# Altium footprint library A_Passive.PcbLib: 83 footprints (part 4 of 6)
Each footprint in its own frame and in the unit in brackets; x right, y up, seen from the top. Pads: shape width x height; smd on the part's side, far side on the other; paste and mask are expansions set on the pad; w line width, h text height; cw(c..) or ccw(c..) is an arc to the next point about the centre after c.
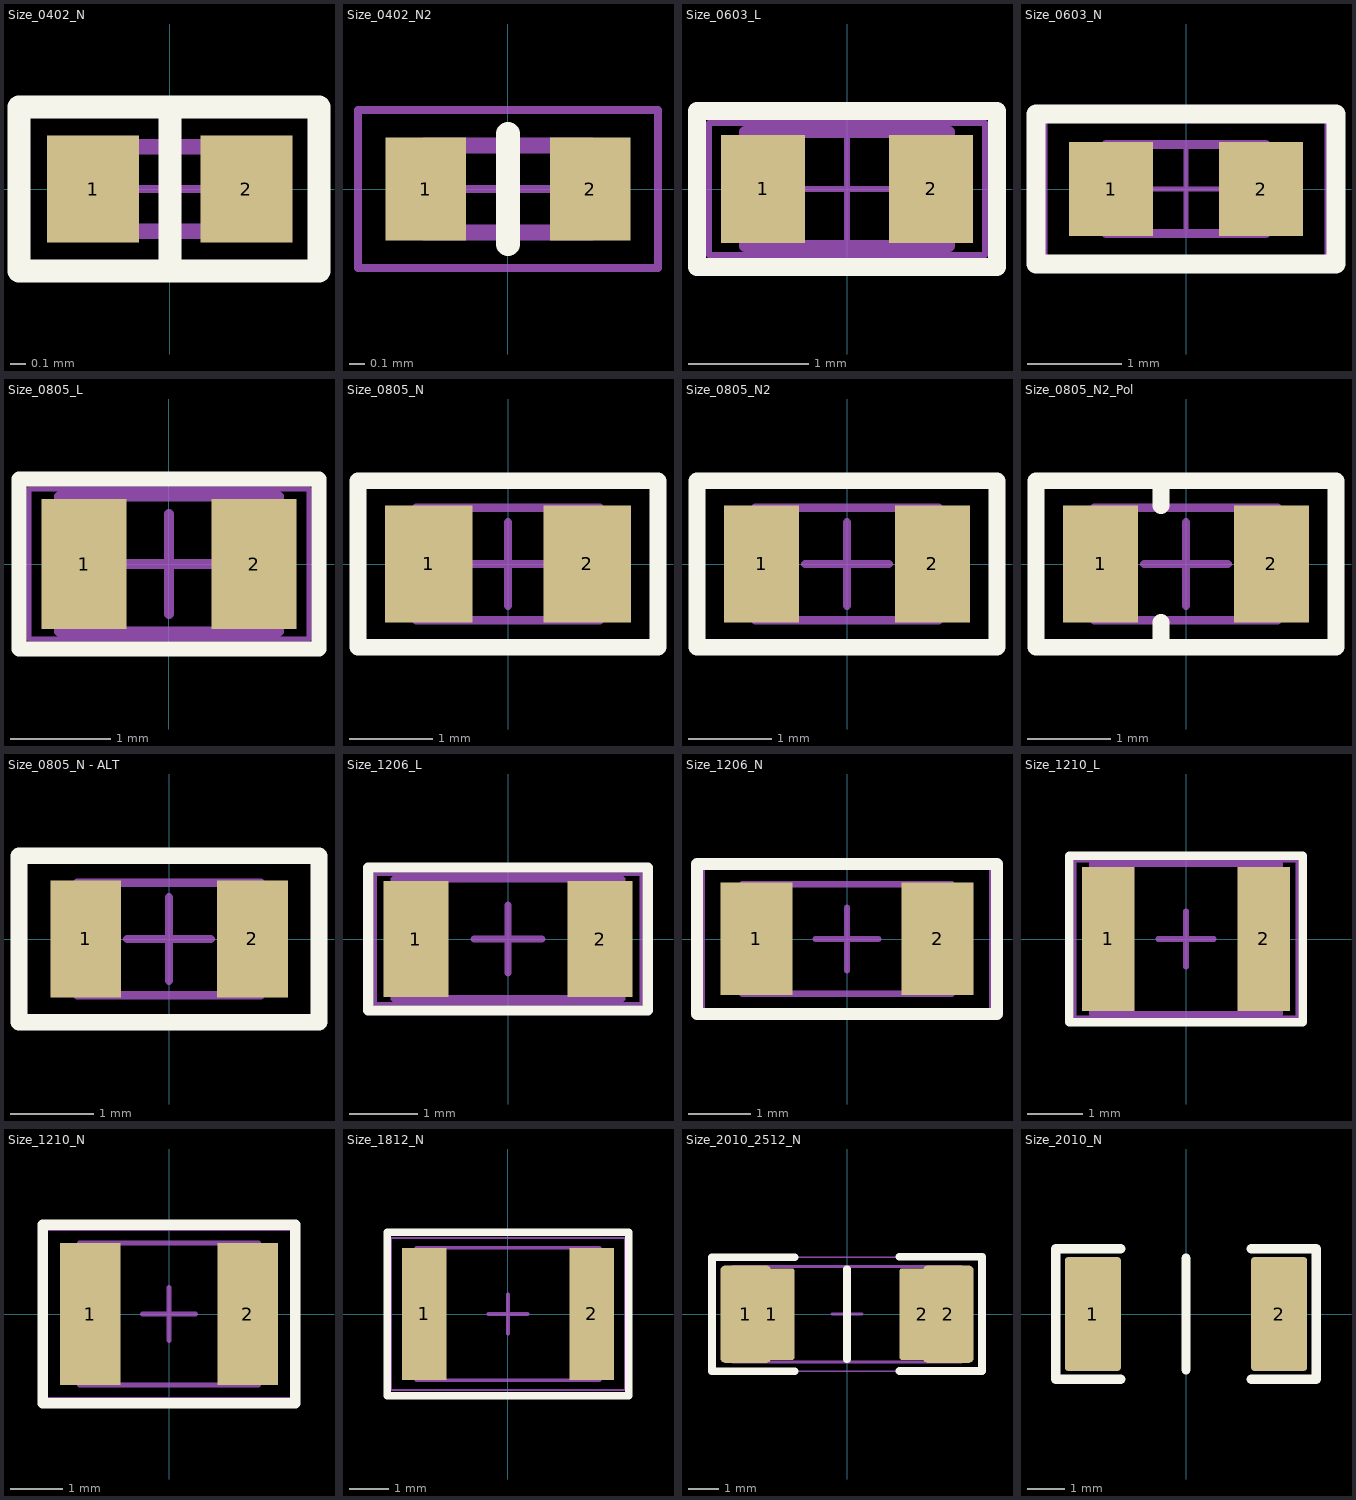
[diagram p3: the footprints below, top view; thin cyan lines are the x and y axes]

## Size_0402_N [mm] "Chip Resistor, Body 1.0x0.5mm, IPC Medium Density"
height 0.4
pads (2):
  rect 0.6x0.7 smd: 1(-0.5,0) 2(0.5,0)
Top Overlay:
  lines w0.15: 0.002,-0.533 0.002,0.533 ; -0.983,-0.533 0.313,-0.533 0.973,-0.533 0.973,0.533 0.313,0.533 -0.983,0.533 -0.983,-0.533
Mechanical 13:
  lines w0.1: -0.525,-0.275 0.525,-0.275 0.525,0.275 -0.525,0.275 -0.525,-0.275
Mechanical 15:
  lines w0.05: -0.275,0 0.275,0 ; 0,-0.275 0,0.275 ; -0.95,-0.5 0.95,-0.5 0.95,0.5 -0.95,0.5 -0.95,-0.5
3D body "User Library-CR1005-0402.step": height 0.35, standoff 0, extent -0.5,-0.25 0.5,0.25

## Size_0402_N2 [mm] "Chip Resistor, Body 1.0x0.5mm, IPC Medium Density"
height 0.4
pads (2):
  rect 0.51x0.65 smd: 1(-0.52,0) 2(0.52,0)
Top Overlay:
  lines w0.15: 0,-0.35 0,0.35
Mechanical 13:
  lines w0.1: -0.525,-0.275 0.525,-0.275 0.525,0.275 -0.525,0.275 -0.525,-0.275
Mechanical 15:
  lines w0.05: -0.275,0 0.275,0 ; 0,-0.275 0,0.275 ; -0.95,-0.5 0.95,-0.5 0.95,0.5 -0.95,0.5 -0.95,-0.5
3D body "User Library-CR1005-0402.step": height 0.35, standoff 0, extent -0.5,-0.25 0.5,0.25

## Size_0603_L [mm] "Chip Resistor, Body 1.6x0.8mm, IPC High Density"
height 0.6
pads (2):
  rect 0.7x0.9 smd: 1(-0.7,0) 2(0.7,0)
Top Overlay:
  lines w0.15: -1.25,-0.65 0.8,-0.65 1.25,-0.65 1.25,0.65 0.8,0.65 -1.25,0.65 -1.25,-0.65
Mechanical 13:
  lines w0.1: -0.85,-0.475 -0.85,0.475 0.85,0.475 0.85,-0.475 -0.85,-0.475
Mechanical 15:
  lines w0.05: -0.475,0 0.475,0 ; 0,-0.475 0,0.475 ; -1.15,-0.55 -1.15,0.55 1.15,0.55 1.15,-0.55 -1.15,-0.55
3D body "SMD RESISTOR-0603.step": height 0.46, standoff 0, extent -0.8,-0.4 0.8,0.4

## Size_0603_N [mm] "Chip Resistor, Body 1.6x0.8mm, IPC Medium Density"
height 0.6
pads (2):
  rect 0.9x1 smd: 1(-0.8,0) 2(0.8,0)
Top Overlay:
  lines w0.2: -1.6,-0.8 -1.6,0.8 1.1,0.8 1.6,0.8 1.6,-0.8 1.1,-0.8 -1.6,-0.8
Mechanical 13:
  lines w0.1: -0.85,-0.475 0.85,-0.475 0.85,0.475 -0.85,0.475 -0.85,-0.475
Mechanical 15:
  lines w0.05: -0.475,0 0.475,0 ; 0,-0.475 0,0.475 ; -1.5,-0.75 1.5,-0.75 1.5,0.75 -1.5,0.75 -1.5,-0.75
3D body "SMD RESISTOR-0603.step": height 0.46, standoff 0, extent -0.8,-0.4 0.8,0.4

## Size_0805_L [mm] "Chip Resistor, Body 2.0x1.3mm, IPC High Density"
height 0.7
pads (2):
  rect 0.85x1.3 smd: 1(-0.85,0) 2(0.85,0)
Top Overlay:
  lines w0.15: -1.5,-0.85 -1.5,0.85 1.1,0.85 1.5,0.85 1.5,-0.85 1.1,-0.85 -1.5,-0.85
Mechanical 13:
  lines w0.1: -1.1,-0.675 1.1,-0.675 1.1,0.675 -1.1,0.675 -1.1,-0.675
Mechanical 15:
  lines w0.05: -1.4,-0.75 1.4,-0.75 1.4,0.75 -1.4,0.75 -1.4,-0.75
  lines w0.1: -0.5,0 0.5,0 ; 0,-0.5 0,0.5
3D body "SMD RESISTOR-0805.step": height 0.62, standoff 0.02, extent -1,-0.625 1,0.625

## Size_0805_N [mm] "Chip Resistor, Body 2.0x1.3mm, IPC Medium Density"
height 0.7
pads (2):
  rect 1.05x1.4 smd: 1(-0.95,0) 2(0.95,0)
Top Overlay:
  lines w0.2: -1.8,-1 -1.8,1 1.1,1 1.8,1 1.8,-1 1.1,-1 -1.8,-1
Mechanical 13:
  lines w0.1: -1.1,-0.675 1.1,-0.675 1.1,0.675 -1.1,0.675 -1.1,-0.675
Mechanical 15:
  lines w0.05: -1.75,-0.95 1.75,-0.95 1.75,0.95 -1.75,0.95 -1.75,-0.95
  lines w0.1: -0.5,0 0.5,0 ; 0,-0.5 0,0.5
3D body "SMD RESISTOR-0805.step": height 0.62, standoff 0.02, extent -1,-0.625 1,0.625

## Size_0805_N2 [mm] "Narrower Pad Width, Chip Resistor, Body 2.0x1.3mm, IPC Medium Density"
height 0.7
pads (2):
  rect 0.9x1.4 smd: 1(-1.025,0) 2(1.025,0)
Top Overlay:
  lines w0.2: -1.8,-1 -1.8,1 1.1,1 1.8,1 1.8,-1 1.1,-1 -1.8,-1
Mechanical 13:
  lines w0.1: -1.1,-0.675 1.1,-0.675 1.1,0.675 -1.1,0.675 -1.1,-0.675
Mechanical 15:
  lines w0.05: -1.75,-0.95 1.75,-0.95 1.75,0.95 -1.75,0.95 -1.75,-0.95
  lines w0.1: -0.5,0 0.5,0 ; 0,-0.5 0,0.5
3D body "SMD RESISTOR-0805.step": height 0.62, standoff 0.02, extent -1,-0.625 1,0.625

## Size_0805_N2_Pol [mm] "Narrower Pad Width, Chip Resistor, Body 2.0x1.3mm, IPC Medium Density"
height 0.7
pads (2):
  rect 0.9x1.4 smd: 1(-1.025,0) 2(1.025,0)
Top Overlay:
  lines w0.2: -0.3,-1 -0.3,-0.7 ; -0.3,0.7 -0.3,1 ; -1.8,-1 1.1,-1 1.8,-1 1.8,1 1.1,1 -1.8,1 -1.8,-1
Mechanical 13:
  lines w0.1: -1.1,-0.675 -1.1,0.675 1.1,0.675 1.1,-0.675 -1.1,-0.675
Mechanical 15:
  lines w0.05: -1.75,-0.95 -1.75,0.95 1.75,0.95 1.75,-0.95 -1.75,-0.95
  lines w0.1: -0.5,0 0.5,0 ; 0,-0.5 0,0.5
3D body "SMD RESISTOR-0805.step": height 0.62, standoff 0.02, extent -1,-0.625 1,0.625

## Size_0805_N - ALT [mm] "Narrower Pad Width, Chip Resistor, Body 2.0x1.3mm, IPC Medium Density"
height 0.7
pads (2):
  rect 0.85x1.4 smd: 1(-1,0) 2(1,0)
Top Overlay:
  lines w0.2: -1.8,-1 1.1,-1 1.8,-1 1.8,1 1.1,1 -1.8,1 -1.8,-1
Mechanical 13:
  lines w0.1: -1.1,-0.675 -1.1,0.675 1.1,0.675 1.1,-0.675 -1.1,-0.675
Mechanical 15:
  lines w0.05: -1.75,-0.95 -1.75,0.95 1.75,0.95 1.75,-0.95 -1.75,-0.95
  lines w0.1: -0.5,0 0.5,0 ; 0,-0.5 0,0.5
3D body "SMD RESISTOR-0805.step": height 0.62, standoff 0.02, extent -1,-0.625 1,0.625

## Size_1206_L [mm] "Chip Resistor, Body 3.2x1.6mm, IPC High Density"
height 0.75
pads (2):
  rect 0.95x1.7 smd: 1(-1.35,0) 2(1.35,0)
Top Overlay:
  lines w0.15: -2.05,-1.05 -2.05,1.05 1.6,1.05 2.05,1.05 2.05,-1.05 1.6,-1.05 -2.05,-1.05
Mechanical 13:
  lines w0.1: -1.675,-0.875 1.675,-0.875 1.675,0.875 -1.675,0.875 -1.675,-0.875
Mechanical 15:
  lines w0.05: -1.95,-0.95 1.95,-0.95 1.95,0.95 -1.95,0.95 -1.95,-0.95
  lines w0.1: -0.5,0 0.5,0 ; 0,-0.5 0,0.5
3D body "SMD RESISTOR-1206.step": height 0.6, standoff 0, extent -1.6,-0.8 1.6,0.8

## Size_1206_N [mm] "Chip Resistor, Body 3.2x1.6mm, IPC Medium Density"
height 0.75
pads (2):
  rect 1.15x1.8 smd: 1(-1.45,0) 2(1.45,0)
Top Overlay:
  lines w0.2: -2.4,-1.2 1.6,-1.2 2.4,-1.2 2.4,1.2 1.6,1.2 -2.4,1.2 -2.4,-1.2
Mechanical 13:
  lines w0.1: -1.675,-0.875 -1.675,0.875 1.675,0.875 1.675,-0.875 -1.675,-0.875
Mechanical 15:
  lines w0.05: -2.3,-1.15 -2.3,1.15 2.3,1.15 2.3,-1.15 -2.3,-1.15
  lines w0.1: -0.5,0 0.5,0 ; 0,-0.5 0,0.5
3D body "SMD RESISTOR-1206.step": height 0.6, standoff 0, extent -1.6,-0.8 1.6,0.8

## Size_1210_L [mm] "Chip Resistor, Body 3.2x2.5mm, IPC High Density"
height 0.71
pads (2):
  rect 0.95x2.6 smd: 1(-1.4,0) 2(1.4,0)
Top Overlay:
  lines w0.15: -2.1,-1.5 -2.1,1.5 1.6,1.5 2.1,1.5 2.1,-1.5 1.6,-1.5 -2.1,-1.5
Mechanical 13:
  lines w0.1: -1.7,-1.35 1.7,-1.35 1.7,1.35 -1.7,1.35 -1.7,-1.35
Mechanical 15:
  lines w0.05: -2,-1.4 2,-1.4 2,1.4 -2,1.4 -2,-1.4
  lines w0.1: -0.5,0 0.5,0 ; 0,-0.5 0,0.5
3D body "SMD RESISTOR-1210.step": height 0.6, standoff 0, extent -1.6,-1.25 1.6,1.25

## Size_1210_N [mm] "Chip Resistor, Body 3.2x2.5mm, IPC Medium Density"
height 0.71
pads (2):
  rect 1.15x2.7 smd: 1(-1.5,0) 2(1.5,0)
Top Overlay:
  lines w0.2: -2.4,-1.7 1.6,-1.7 2.4,-1.7 2.4,1.7 1.6,1.7 -2.4,1.7 -2.4,-1.7
Mechanical 13:
  lines w0.1: -1.7,-1.35 1.7,-1.35 1.7,1.35 -1.7,1.35 -1.7,-1.35
Mechanical 15:
  lines w0.05: -2.35,-1.6 2.35,-1.6 2.35,1.6 -2.35,1.6 -2.35,-1.6
  lines w0.1: -0.5,0 0.5,0 ; 0,-0.5 0,0.5
3D body "SMD RESISTOR-1210.step": height 0.6, standoff 0, extent -1.6,-1.25 1.6,1.25

## Size_1812_N [mm] "Chip Resistor, Body 4.5x3.2mm, IPC Medium Density"
height 0.71
pads (2):
  rect 1.15x3.4 smd: 1(-2.15,0) 2(2.15,0)
Top Overlay:
  lines w0.2: -3.1,-2.1 -3.1,2.1 2,2.1 3.1,2.1 3.1,-2.1 2.1,-2.1 -3.1,-2.1
Mechanical 13:
  lines w0.1: -2.35,-1.7 -2.35,1.7 2.35,1.7 2.35,-1.7 -2.35,-1.7
Mechanical 15:
  lines w0.05: -3,-1.95 -3,1.95 3,1.95 3,-1.95 -3,-1.95
  lines w0.1: -0.5,0 0.5,0 ; 0,-0.5 0,0.5
3D body: height 0.71, standoff 0, extent 1.801,-1.7 2.35,1.7
3D body: height 0.71, standoff 0, extent -1.8,-1.699 1.801,1.7
3D body: height 0.71, standoff 0, extent -2.35,-1.7 -1.8,1.7

## Size_2010_2512_N [mm]
pads (4):
  rrect20% 1.7x3.25 smd: 1(-3.375,0) 2(3.375,0)
  rrect10% 1.5x3.05 smd: 1(-2.5,0) 2(2.5,0)
Top Overlay:
  lines w0.254: -1.75,-1.906 -4.5,-1.906 -4.5,1.895 -1.75,1.895 ; 0,-1.5 0,1.5 ; 1.75,-1.895 4.5,-1.895 4.5,1.914 1.75,1.914
Mechanical 13:
  lines w0.1: -3.81,-1.59 -3.81,1.59 3.81,1.59 3.81,-1.59 -3.81,-1.59
Mechanical 15:
  lines w0.05: -4.45,-1.9 -4.45,1.9 4.45,1.9 4.45,-1.9 -4.45,-1.9
  lines w0.1: -0.5,0 0.5,0 ; 0,-0.5 0,0.5
3D body "2512_N.step": height 0.6, standoff 0, extent -3.81,-1.59 3.81,1.59

## Size_2010_N [mm]
pads (2):
  rrect10% 1.5x3.05 smd: 1(-2.5,0) 2(2.5,0)
Top Overlay:
  lines w0.254: -1.75,-1.75 -3.5,-1.75 -3.5,1.75 -1.75,1.75 ; 0,-1.5 0,1.5 ; 1.75,-1.75 3.5,-1.75 3.5,1.75 1.75,1.75